# Altium schematic symbol library PSAT PCB Workshop.SchLib: 13 symbols
Pins are listed as number, name and electrical type; pins without a type are passive.

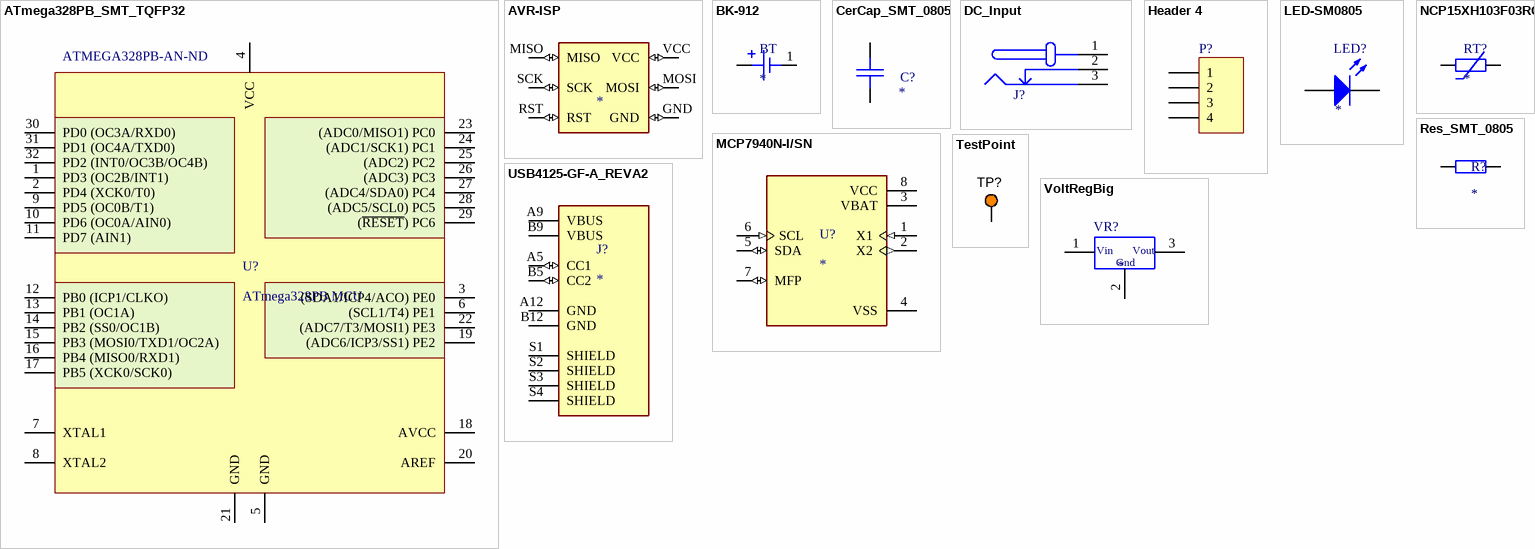
[diagram p0: symbols ATmega328PB_SMT_TQFP32 to VoltRegBig]

## ATmega328PB_SMT_TQFP32
designator U?, comment ATmega328PB MCU  Supplier Part Number 1: ATMEGA328PB-AN-ND
IC MCU 8BIT 32KB FLASH 32TQFP; Manufacturer: Atmel; Manufacturer Part Number: ATMEGA328PB-AN; Core Processor: AVR; Core Size: 8-Bit; Speed: 20MHz; Connectivity: I²C, SPI, UART/USART; Peripherals: Brown-out Detect/Reset, POR, PWM, WDT; Number of I/O: 27; Program Memory Size: 32KB (16K x 16); EEPROM Size: 1K x 8; RAM Size: 2K x 8; Voltage - Supply (Vcc/Vdd): 1.8 V ~ 5.5 V; Data Converters: A/D 8x10b; Oscillator Type: Internal; Supplier 1: Digi-Key; RoHS: RoHS Compliant; Category: Integrated Circuits (ICs); Stock 1: 366; Pricing 1: 1=2.74, 10=2.448, 25=2.2032, 100=2.0074, 250=1.81152, 500=1.62548, 1000=1.37088 (USD); Packaging: Tray; Part Status: Active; Program Memory Type: FLASH; Operating Temperature: -40°C ~ 105°C (TA); Package / Case: 32-TQFP; Supplier Device Package: 32-TQFP (7x7); ComponentLink1URL: http://www.atmel.com/images/atmel-42397-8-bit-avr-microcontroller-atmega328pb_datasheet.pdf; ComponentLink1Description: http://www.atmel.com/images/atmel-42397-8-bit-avr-microcontroller-atmega328pb_datasheet.pdf
footprint 32 - TQFP
pins: 1 PD3 (OC2B/INT1) , 2 PD4 (XCK0/T0) , 3 (SDA1/ICP4/ACO) PE0, 4 VCC, 5 GND, 6 (SCL1/T4) PE1, 7 XTAL1, 8 XTAL2, 9 PD5 (OC0B/T1) , 10 PD6 (OC0A/AIN0) , 11 PD7 (AIN1) , 12 PB0 (ICP1/CLKO) , 13 PB1 (OC1A) , 14 PB2 (SS0/OC1B) , 15 PB3 (MOSI0/TXD1/OC2A) , 16 PB4 (MISO0/RXD1) , 17 PB5 (XCK0/SCK0), 18 AVCC, 19 (ADC6/ICP3/SS1) PE2, 20 AREF, 21 GND, 22 (ADC7/T3/MOSI1) PE3, 23 (ADC0/MISO1) PC0, 24 (ADC1/SCK1) PC1, 25 (ADC2) PC2, 26 (ADC3) PC3, 27 (ADC4/SDA0) PC4, 28 (ADC5/SCL0) PC5, 29 (~{RESET}) PC6, 30 PD0 (OC3A/RXD0), 31 PD1 (OC4A/TXD0), 32 PD2 (INT0/OC3B/OC4B)

## AVR-ISP
designator ?
Emulators / Simulators AVR USB IN CIRCUIT EMUL/PRGMR ISP; MP: AVR-ISP; MF: Gravitech; SnapEDA_Link: https://www.snapeda.com/parts/AVR-ISP/Gravitech/view-part/4593377/?ref=snap; Availability: Unavailable; Price: None; Value: *; Package: None
footprint AVR-ISP
pins: GND (io), MISO (io), MOSI (io), RST (io), SCK (io), VCC (io)

## BK-912
designator BT
BATTERY RETAINER COIN 20MM SMD; MF: MPD; MP: BK-912; Value: *; Price: None; Package: None; SnapEDA_Link: https://www.snapeda.com/parts/BK-912/Memory%20Protection%20Devices/view-part/4219672/?ref=snap; Availability: Unavailable
footprint BAT_BK-912
pins: 1 NEG, S1 POS

## CerCap_SMT_0805
designator C?
SMT ceramic capacitor 0805 size; Value: *
footprint 0805 CAP (http://www.digikey.co.nz/Web%20Export/Supplier%20Content/Vishay_8026/PDF/VishayBeyschlag_SolderPad.pdf?redirected=1 with dimension G modified by +0.25mm)
pins: 1, 2

## DC_Input
designator J?, comment DC barrel jack  (value not drawn)
DC barrel jack connection to AC source; Value: socket
footprint AC-Socket
pins: 1 VCC (power) "Common VCC", 2 GND_ALT (power) "Alternate Supply Ground", 3 GND (power) "Common Ground"

## Header 4
designator P?
Header, 4-Pin; LatestRevisionDate: 17-Jul-2002; LatestRevisionNote: Re-released for DXP Platform.; Publisher: Altium Limited
signal-integrity model Connector
footprint ece-HDR1X4 (Header 4 way)
pins: 1, 2, 3, 4

## LED-SM0805
designator LED?
SMT LED; Manufacturer: Generic Components; Class I: Optoelectronic; Published: 8-Jun-2000; Revision: July-2002: Re-released for DXP Platform.; Publisher: Altium Limited; Class II: LED; Value: *
simulation model LED0 (Diode)
footprint ECE-LED2012-0805SM (SMD LED, Body; 2mm x 1.25 mm (LxW))
pins: 1 A, 2 K

## MCP7940N-I/SN
designator U?
Microchip MCP7940N-I/SN, Real Time Clock, 64B RAM Serial-I2C, 8-Pin SOIC | Microchip Technology Inc. MCP7940N-I/SN; SnapEDA_Link: https://www.snapeda.com/parts/MCP7940N-I/SN/Microchip/view-part/?ref=snap; Package: SO-8 Microchip; Value: *; MF: Microchip; MP: MCP7940N-I/SN; Check_prices: https://www.snapeda.com/parts/MCP7940N-I/SN/Microchip/view-part/?ref=eda
footprint SOIC127P600X175-8N
pins: 1 X1 (in), 2 X2 (out), 3 VBAT (power), 4 VSS (power), 5 SDA (io), 6 SCL (in), 7 MFP (io), 8 VCC (power)

## NCP15XH103F03RC
designator RT?
NTC Thermistor 10k 0402 (1005 Metric); MF: Murata; MP: NCP15XH103F03RC; SnapEDA_Link: https://www.snapeda.com/parts/NCP15XH103F03RC/Murata/view-part/?ref=snap; Package: 1005 Taiyo Yuden; Value: *; Check_prices: https://www.snapeda.com/parts/NCP15XH103F03RC/Murata/view-part/?ref=eda
footprint THRMC1005X55N
pins: 1, 2

## Res_SMT_0805
designator R?
0805 resistor; Published: 8-Jun-2000; LatestRevisionDate: 17-Jul-2002; LatestRevisionNote: Re-released for DXP Platform.; PackageReference: AXIAL-0.4; Publisher: Altium Limited; Value: *; ComponentLink1Description: https://nz.mouser.com/datasheet/2/315/AOA0000C304-1149620.pdf
footprint 0805 RES (http://www.digikey.co.nz/Web%20Export/Supplier%20Content/Vishay_8026/PDF/VishayBeyschlag_SolderPad.pdf?redirected=1 with dimension G modified by +0.25mm)
pins: 1, 2

## TestPoint
designator TP?, comment 5003  (value not drawn)
Test Point, Orange, 1-Pin THD, RoHS; Peak Reverse Current: 600 uA; Forward Current: 3 A; Max Surge Current: 80 A; Forward Voltage: 1.08 V; Max Operating Temperature: 150 degC; PackageReference: 5003; Pins: 2; ComponentLink2URL: http://keyelco.com/userAssets/file/M65p56.pdf; PackageDescription: 1-Pin Through Hole Device, Dia 2.54 mm; Weight: 0.01 lb; Diameter: 5.3 mm; Mount: Through Hole; Package Quantity: 500; Packaging: Bulk; Min Operating Temperature: -65 degC; ComponentLink1Description: Manufacturer URL; Height: 0.25 inch; ComponentLink1URL: http://www.keyelco.com/; ComponentLink2Description: Datasheet; Width: 0.25 inch; REACH SVHC: No SVHC; RoHSCompliant: true; Radiation Hardening: No; Length: 9.5 mm; DatasheetVersion: Jun-15
footprint TP_TH (Test Point, Through Hole, Dia 2.54mm)
pins: 1

## USB4125-GF-A_REVA2
designator J?
MP: USB4125-GF-A_REVA2; Package: None; Availability: Unavailable; Value: *; Price: None
footprint GCT_USB4125-GF-A_REVA2
pins: A5 CC1 (io), A9 VBUS (power), A12 GND (power), B5 CC2 (io), B9 VBUS (power), B12 GND (power), S1 SHIELD, S2 SHIELD, S3 SHIELD, S4 SHIELD

## VoltRegBig
designator VR?
Voltage Regulator; Value: *
footprint ece-TO220
pins: 1 Vin, 2 Gnd, 3 Vout